# Altium footprint library MainPcblib.PcbLib: 316 footprints (part 7 of 20)
Each footprint in its own frame and in the unit in brackets; x right, y up, seen from the top. Pads: shape width x height; smd on the part's side, far side on the other; paste and mask are expansions set on the pad; w line width, h text height; cw(c..) or ccw(c..) is an arc to the next point about the centre after c.
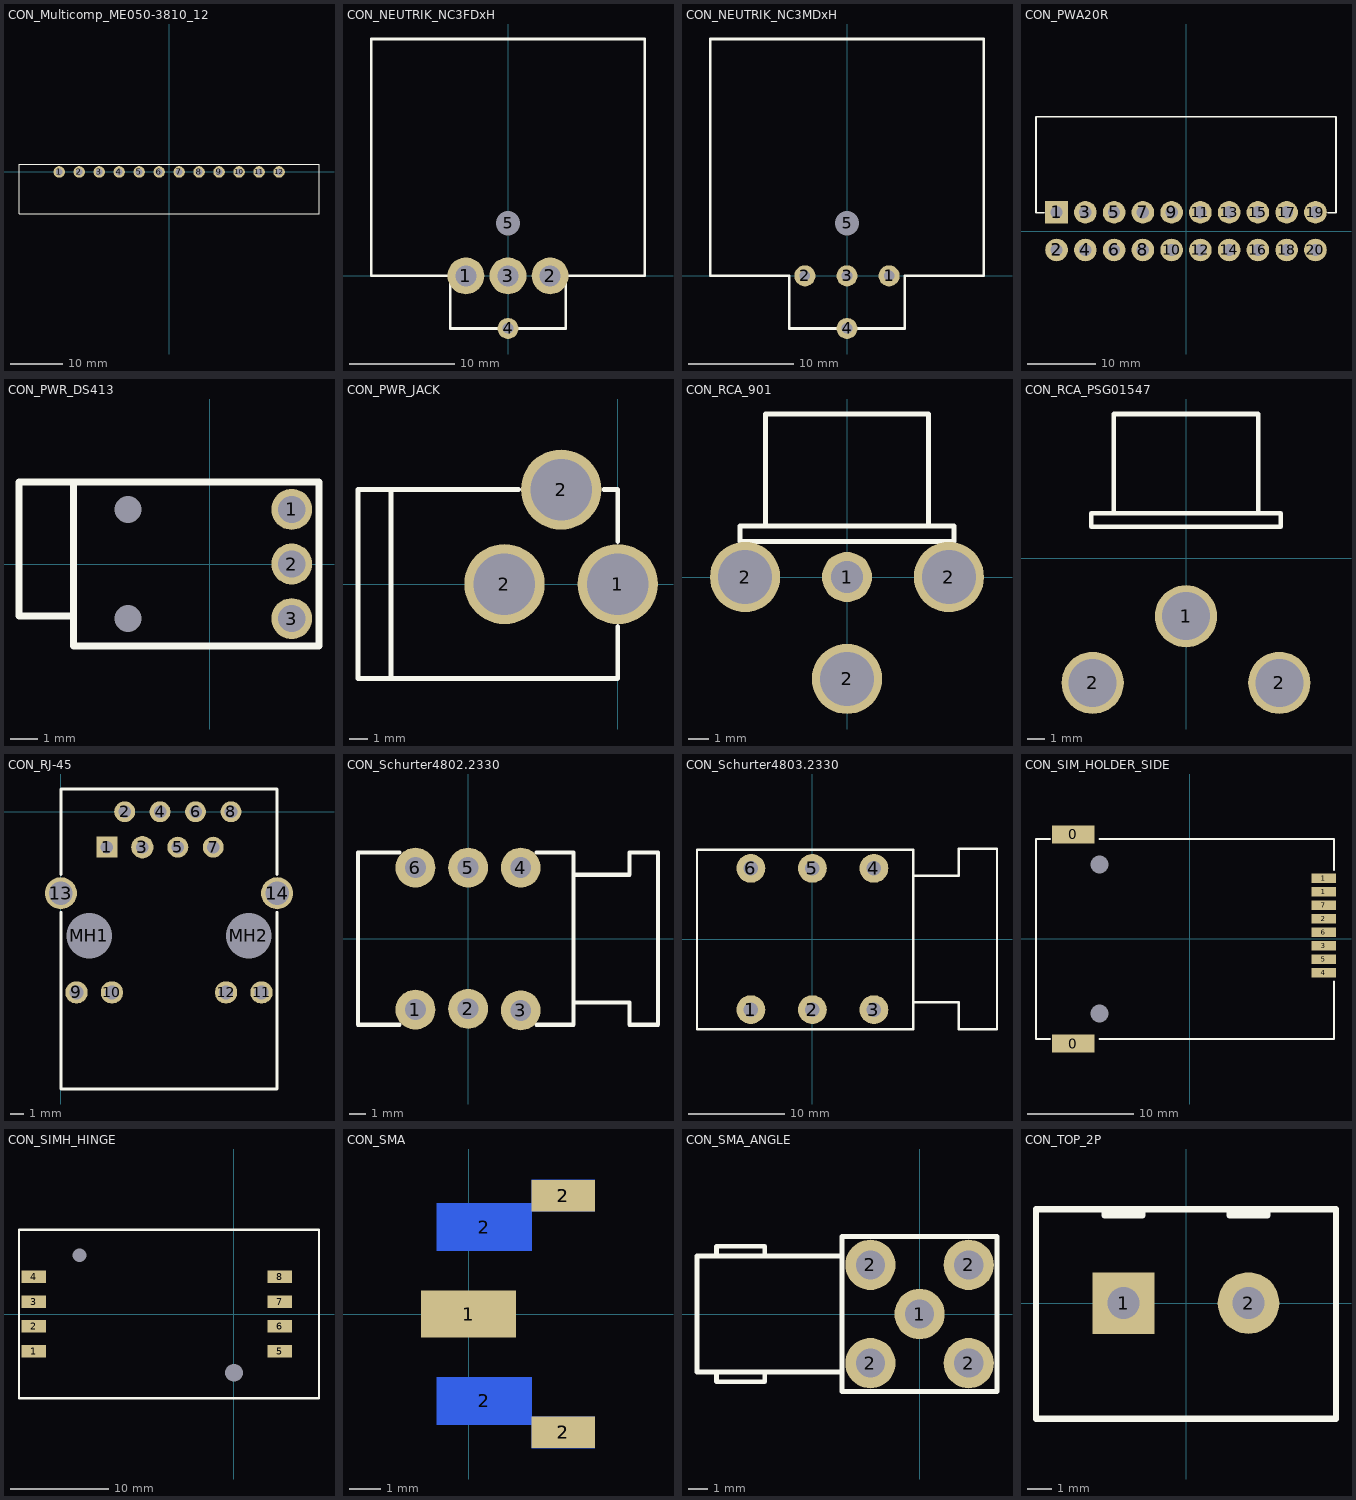
[diagram p6: the footprints below, top view; thin cyan lines are the x and y axes]

## CON_Multicomp_ME050-3810_12 [mm] "Side-entry header with flanges"
height 7
pads (12):
  round 2.2 hole 1.3: 1(-20.955,0) 2(-17.145,0) 3(-13.335,0) 4(-9.525,0) 5(-5.715,0) 6(-1.905,0) 7(1.905,0) 8(5.715,0) 9(9.525,0) 10(13.335,0) 11(17.145,0) 12(20.955,0)
Top Overlay:
  lines w0.2: -28.62,-8 28.575,-8 28.575,1.5 -28.62,1.5 -28.62,-8

## CON_NEUTRIK_NC3FDxH [mm] "XLR connector for PCB mount - female"
height 25
pads (5):
  round 3.5 hole 2: 1(-4,0) 2(4,0) 3(0,0)
  round 2 hole 1: 4(0,-5)
  round 2 hole 2.3: 5(0,5)
Top Overlay:
  lines w0.254: -1,-5 -5.5,-5 -5.5,0 -13,0 -13,22.5 10,22.5 13,22.5 13,0 5.5,0 5.5,-5 1,-5

## CON_NEUTRIK_NC3MDxH [mm] "XLR connector for PCB mount - male"
height 25
pads (5):
  round 2 hole 1: 1(4,0) 2(-4,0) 3(0,0) 4(0,-5)
  round 2 hole 2.3: 5(0,5)
Top Overlay:
  lines w0.254: -1,-5 -5.5,-5 -5.5,0 -13,0 -13,22.5 10,22.5 13,22.5 13,0 5.5,0 5.5,-5 1,-5

## CON_PWA20R [mm] "CON_PWA"
pads (20):
  rect 3.3x3.3 hole 1.8: 1(-18.9,2.75)
  round 3.3 hole 1.8: 2(-18.9,-2.75) 3(-14.7,2.75) 4(-14.7,-2.75) 5(-10.5,2.75) 6(-10.5,-2.75) 7(-6.3,2.75) 8(-6.3,-2.75) 9(-2.1,2.75) 10(-2.1,-2.75) 11(2.1,2.75) 12(2.1,-2.75) 13(6.3,2.75) 14(6.3,-2.75) 15(10.5,2.75) 16(10.5,-2.75) 17(14.7,2.75) 18(14.7,-2.75) 19(18.9,2.75) 20(18.9,-2.75)
Top Overlay:
  lines w0.254: -20.7,2.7 -20.8,2.7 -21.9,2.7 -21.9,16.7 21.9,16.7 21.9,2.7 20.7,2.7

## CON_PWR_DS413 [mm]
height 5.2
pads (5):
  round 0 hole 1: 0(-3,-2) 0(-3,2)
  round 1.5 hole 1: 1(3,2) 2(3,0) 3(3,-2)
Top Overlay:
  lines w0.254: -5,-1.9 -7,-1.9 -7,3 -5,3 ; -5,3 4,3 4,-3 -5,-3 -5,3

## CON_PWR_JACK [mil] "Power Jack"
pads (3):
  round 170 hole 130: 1(0,0) 2(-240,0) 2(-120,200)
Top Overlay:
  lines w10: -480,-200 -480,200 ; -210,200 -550,200 -550,-200 0,-200 0,-90 ; -30,200 0,200 0,90

## CON_RCA_901 [mm] "Keystone 901"
pads (4):
  round 2.5 hole 1.6: 1(0,0)
  round 3.5 hole 2.7: 2(-5.08,0) 2(0,-5.08) 2(5.08,0)
Top Overlay:
  lines w0.254: -4.064,2.54 -4.064,8.128 4.064,8.128 4.064,2.54 ; -5.334,1.778 -5.334,2.54 5.334,2.54 5.334,1.778 -5.334,1.778

## CON_RCA_PSG01547 [mm] "Pro Signal PSG01547"
pads (3):
  round 3.5 hole 2.7: 1(0,-3.25) 2(-5.25,-7) 2(5.25,-7)
Top Overlay:
  lines w0.254: -4.064,2.54 -4.064,8.128 4.064,8.128 4.064,2.54 ; -5.334,1.778 -5.334,2.54 5.334,2.54 5.334,1.778 -5.334,1.778

## CON_RJ-45 [mm]
pads (16):
  rect 1.5x1.5 hole 0.9: 1(3.302,-2.54)
  round 1.5 hole 0.9: 2(4.572,0) 4(7.112,0) 5(8.382,-2.54) 6(9.652,0) 7(10.922,-2.54) 8(12.192,0)
  round 1.6 hole 0.9: 3(5.842,-2.54)
  round 1.6 hole 1: 9(1.12,-12.95) 10(3.66,-12.95) 11(14.38,-12.95) 12(11.84,-12.95)
  round 2.3 hole 1.7: 13(0,-5.84) 14(15.5,-5.84)
  round 2.95 hole 3.25 unplated: MH1(2.03,-8.89) MH2(13.47,-8.89)
Top Overlay:
  lines w0.2: 0,-7.2 0,-19.87 15.5,-19.87 15.5,-7.2 ; 0,-4.5 0,1.63 15.5,1.63 15.5,-4.5

## CON_Schurter4802.2330 [mm] "3.5mm audio socket - NOT COMPATIBLE!!!!"
height 17
pads (6):
  round 2.5 hole 1.3: 1(-3.3,-4.45) 2(0,-4.4) 3(3.3,-4.5) 4(3.3,4.45) 5(0,4.45) 6(-3.3,4.45)
Top Overlay:
  lines w0.254: -4.3,-5.4 -6.9,-5.4 -6.9,5.4 -4.3,5.4 ; 4.3,-5.4 6.6,-5.4 6.6,5.4 4.3,5.4 ; 6.6,-4 10.1,-4 10.1,-5.4 11.9,-5.4 11.9,5.4 10.1,5.4 10.1,4 6.6,4

## CON_Schurter4803.2330 [mm] "1/4in audio socket"
height 17
pads (6):
  round 3 hole 1.5: 1(-6.4,-7.35) 2(0,-7.35) 3(6.4,-7.35) 4(6.4,7.35) 5(0,7.35) 6(-6.4,7.35)
Top Overlay:
  lines w0.254: 10.5,-6.6 15.2,-6.6 15.2,-9.4 19.2,-9.4 19.2,9.4 15.2,9.4 15.2,6.6 10.5,6.6 ; -12,-9.4 10.5,-9.4 10.5,9.3 -12,9.3 -12,-9.4

## CON_SIM_HOLDER_SIDE [mm]
pads (12):
  rect 4x1.7 smd: 0(-10.991,-9.859) 0(-10.991,9.841)
  rect 2.3x0.9 smd: 1(12.609,4.436) 1(12.609,5.706) 2(12.609,1.896) 3(12.609,-0.644) 4(12.609,-3.184) 5(12.609,-1.914) 6(12.609,0.626) 7(12.609,3.166)
  round 1.524 hole 1.7: Hole(-8.491,-7.009) Hole(-8.491,6.991)
Top Overlay:
  lines w0.2: -13.191,-9.434 -14.491,-9.434 -14.491,9.416 -13.191,9.416 ; -8.491,-9.434 13.559,-9.434 13.559,-4.009 ; -8.491,9.416 13.559,9.416 13.559,6.491

## CON_SIMH_HINGE [mm] "for 115B-BAA0-R01"
height 2
pads (10):
  round 0 hole 1.4: 0(-15.8,6)
  round 0 hole 1.8: 0(0,-6)
  rect 2.5x1.27 smd: 1(-20.5,-3.81) 2(-20.5,-1.27) 3(-20.5,1.27) 4(-20.5,3.81) 5(4.7,-3.81) 6(4.7,-1.27) 7(4.7,1.27) 8(4.7,3.81)
Top Overlay:
  lines w0.254: -22,-8.6 8.7,-8.6 8.7,8.6 -22,8.6 -22,-8.6

## CON_SMA [mm]
pads (7):
  rect 3x1.5 smd: 1(0,0)
  rect 3x1.5 smd far side: 2(0.5,-2.75) 2(0.5,2.75)
  rect 2x1 smd: 2(3,-3.75) 2(3,3.75)
  rect 2x1 smd far side: 2(3,-3.75) 2(3,3.75)

## CON_SMA_ANGLE [mm] "Comet: SMA F R/A PCB"
pads (5):
  round 2.6 hole 1.5: 1(0,0) 2(-2.54,-2.54) 2(-2.54,2.54) 2(2.54,-2.54) 2(2.54,2.54)
Top Overlay:
  lines w0.254: -10.5,-3 -10.5,-3.5 -8,-3.5 -8,-3 ; -10.5,3 -10.5,3.5 -8,3.5 -8,3 ; -4,-3 -11.5,-3 -11.5,3 -4,3 ; -4,-4 -4,4 4,4 4,-4 -4,-4

## CON_TOP_2P [mm] "Weidumuller - SL 5.08/2/180B"
height 12
pads (2):
  rect 2.5x2.5 hole 1.3: 1(-2.54,0)
  round 2.5 hole 1.3: 2(2.54,0)
Top Overlay:
  lines w0.254: -3.302,3.81 -3.302,3.556 -1.778,3.556 -1.778,3.81 ; 1.778,3.81 1.778,3.556 3.302,3.556 3.302,3.81 ; -6.096,-4.699 6.096,-4.699 6.096,3.81 -6.096,3.81 -6.096,-4.699